# EAGLE library part PCA9553 (library glasses)
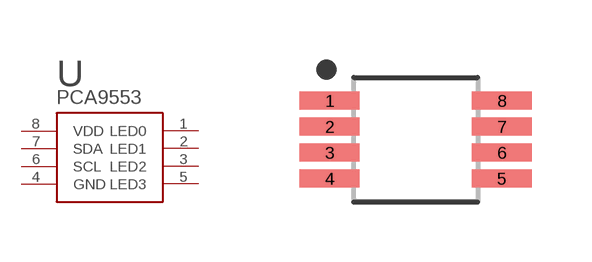
[diagram p15: symbol with the pads of SOP65P490X110-8; footprint SOP65P490X110-8]

Designator prefix U

## PCA9553TSSOP8  [SOP65P490X110-8]
1  LED0
2  LED1
3  LED2
4  GND
5  LED3
6  SCL
7  SDA
8  VDD

## Footprint SOP65P490X110-8 (pad centres in mm)
8-SOP, 0.65 mm pitch, 4.90 mm span, 3.00 X 3.00 X 1.10 mm body 8-pin SOP package with 0.65 mm pitch, 4.90 mm span with body size 3.00 X 3.00 X 1.10 mm
smd 1.5 x 0.45: 1 -2.153,0.975; 2 -2.153,0.325; 3 -2.153,-0.325; 4 -2.153,-0.975; 5 2.153,-0.975; 6 2.153,-0.325; 7 2.153,0.325; 8 2.153,0.975